# EAGLE library part LED3A3K (library ads4)
RGB LED 3 anodes 3 cathodes
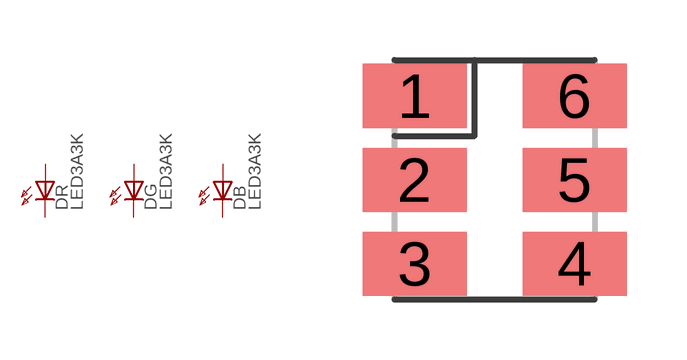
[diagram p104: symbol with the pads of PLCC6; footprint PLCC6]

Designator prefix D; gates R=LED G=LED B=LED

## LED3A3KPLCC6  [PLCC6]
1  R:A  pas
2  G:A  pas
3  B:A  pas
4  B:K  pas
5  G:K  pas
6  R:K  pas

## Footprint PLCC6 (pad centres in mm)
Cree CLP6C PLCC6 package 6mm x 5.7mm, lead pitch 2.1mm
smd 2.6 x 1.6: 1 -2,2.1; 2 -2,0; 3 -2,-2.1; 4 2,-2.1; 5 2,0; 6 2,2.1